# Altium footprint library ConnectorsERNI.PcbLib: 1 footprints
Each footprint in its own frame and in the unit in brackets; x right, y up, seen from the top. Pads: shape width x height; smd on the part's side, far side on the other; paste and mask are expansions set on the pad; w line width, h text height; cw(c..) or ccw(c..) is an arc to the next point about the centre after c.
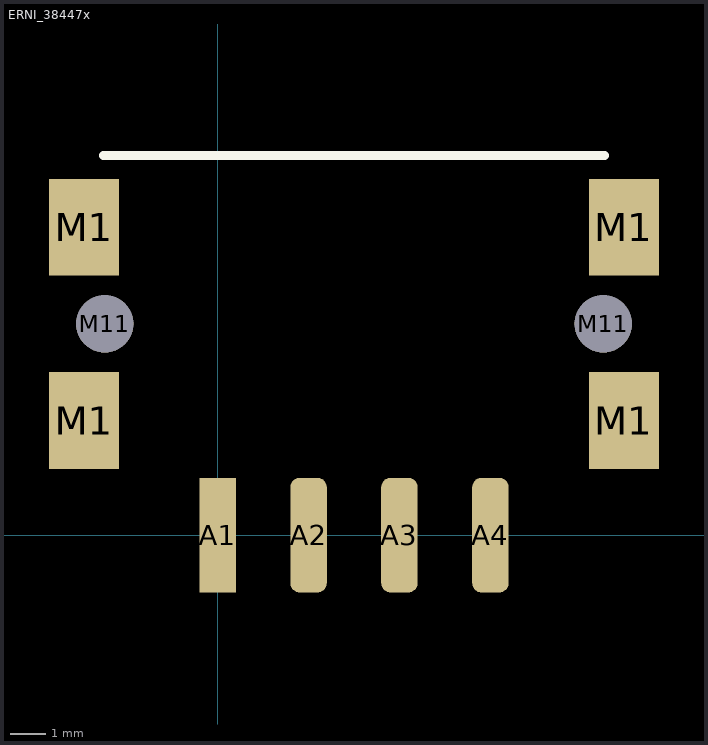
[diagram p0: the footprint, top view; thin cyan lines are the x and y axes]

## ERNI_38447x [mm]
pads (10):
  rect 1.02x3.2 smd: A1(0,0)
  rrect50% 1.02x3.2 smd: A2(2.54,0) A3(5.08,0) A4(7.62,0)
  rect 1.95x2.7 smd: M1(-3.725,3.2) M1(-3.725,8.6) M1(11.345,3.2) M1(11.345,8.6)
  round 1.6 hole 1.6: M11(-3.15,5.9) M11(10.77,5.9)
Top Overlay:
  lines w0.254: -3.19,10.6 10.81,10.6
3D body "384474.STEP": height 5.06, standoff -0.74, extent -4.5,-1.6 12.12,10.6